# Altium footprint library 61301221121.PcbLib: 2 footprints
Each footprint in its own frame and in the unit in brackets; x right, y up, seen from the top. Pads: shape width x height; smd on the part's side, far side on the other; paste and mask are expansions set on the pad; w line width, h text height; cw(c..) or ccw(c..) is an arc to the next point about the centre after c.
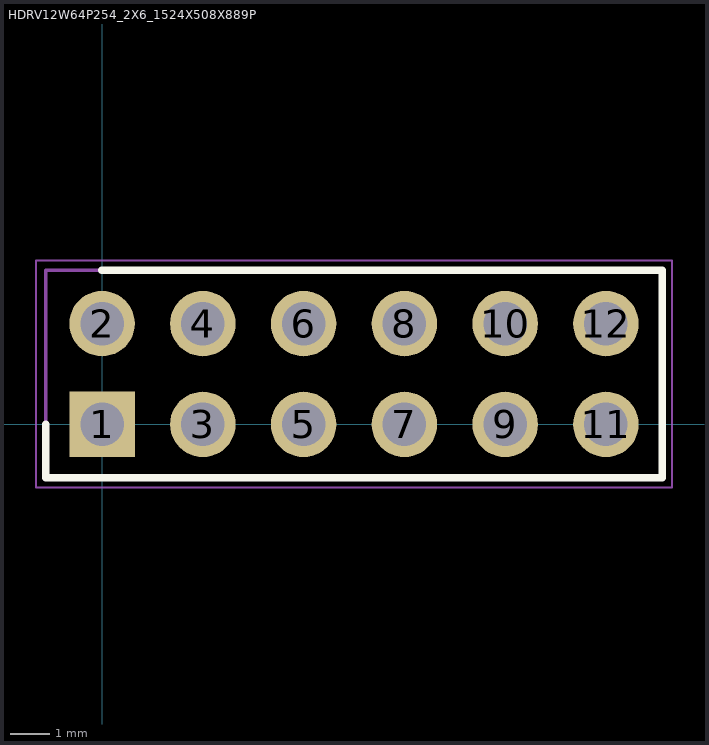
[diagram p0: the footprints below, top view; thin cyan lines are the x and y axes]

## HDRV12W64P254_2X6_1524X508X889P [mm]
pads (12):
  rect 1.65x1.65 hole 1.1: 1(0,0)
  round 1.65 hole 1.1: 2(0,2.54) 3(2.54,0) 4(2.54,2.54) 5(5.08,0) 6(5.08,2.54) 7(7.62,0) 8(7.62,2.54) 9(10.16,0) 10(10.16,2.54) 11(12.7,0) 12(12.7,2.54)
Top Overlay:
  lines w0.2: -1.42,0 -1.42,-1.345 14.12,-1.345 14.12,3.885 0,3.885
Mechanical 13:
  lines w0.1: -1.42,-1.345 14.12,-1.345 14.12,3.885 -1.42,3.885 -1.42,-1.345
Mechanical 15:
  lines w0.05: -1.67,-1.595 14.37,-1.595 14.37,4.135 -1.67,4.135 -1.67,-1.595
3D body "61301221121.stp": height 8.89, standoff -3.2, extent -1.27,-1.27 13.97,3.81

## PCBComponent_1 [mm]